# Altium footprint library Flow_Pump显示板.PcbLib: 70 footprints (part 2 of 5)
Each footprint in its own frame and in the unit in brackets; x right, y up, seen from the top. Pads: shape width x height; smd on the part's side, far side on the other; paste and mask are expansions set on the pad; w line width, h text height; cw(c..) or ccw(c..) is an arc to the next point about the centre after c.
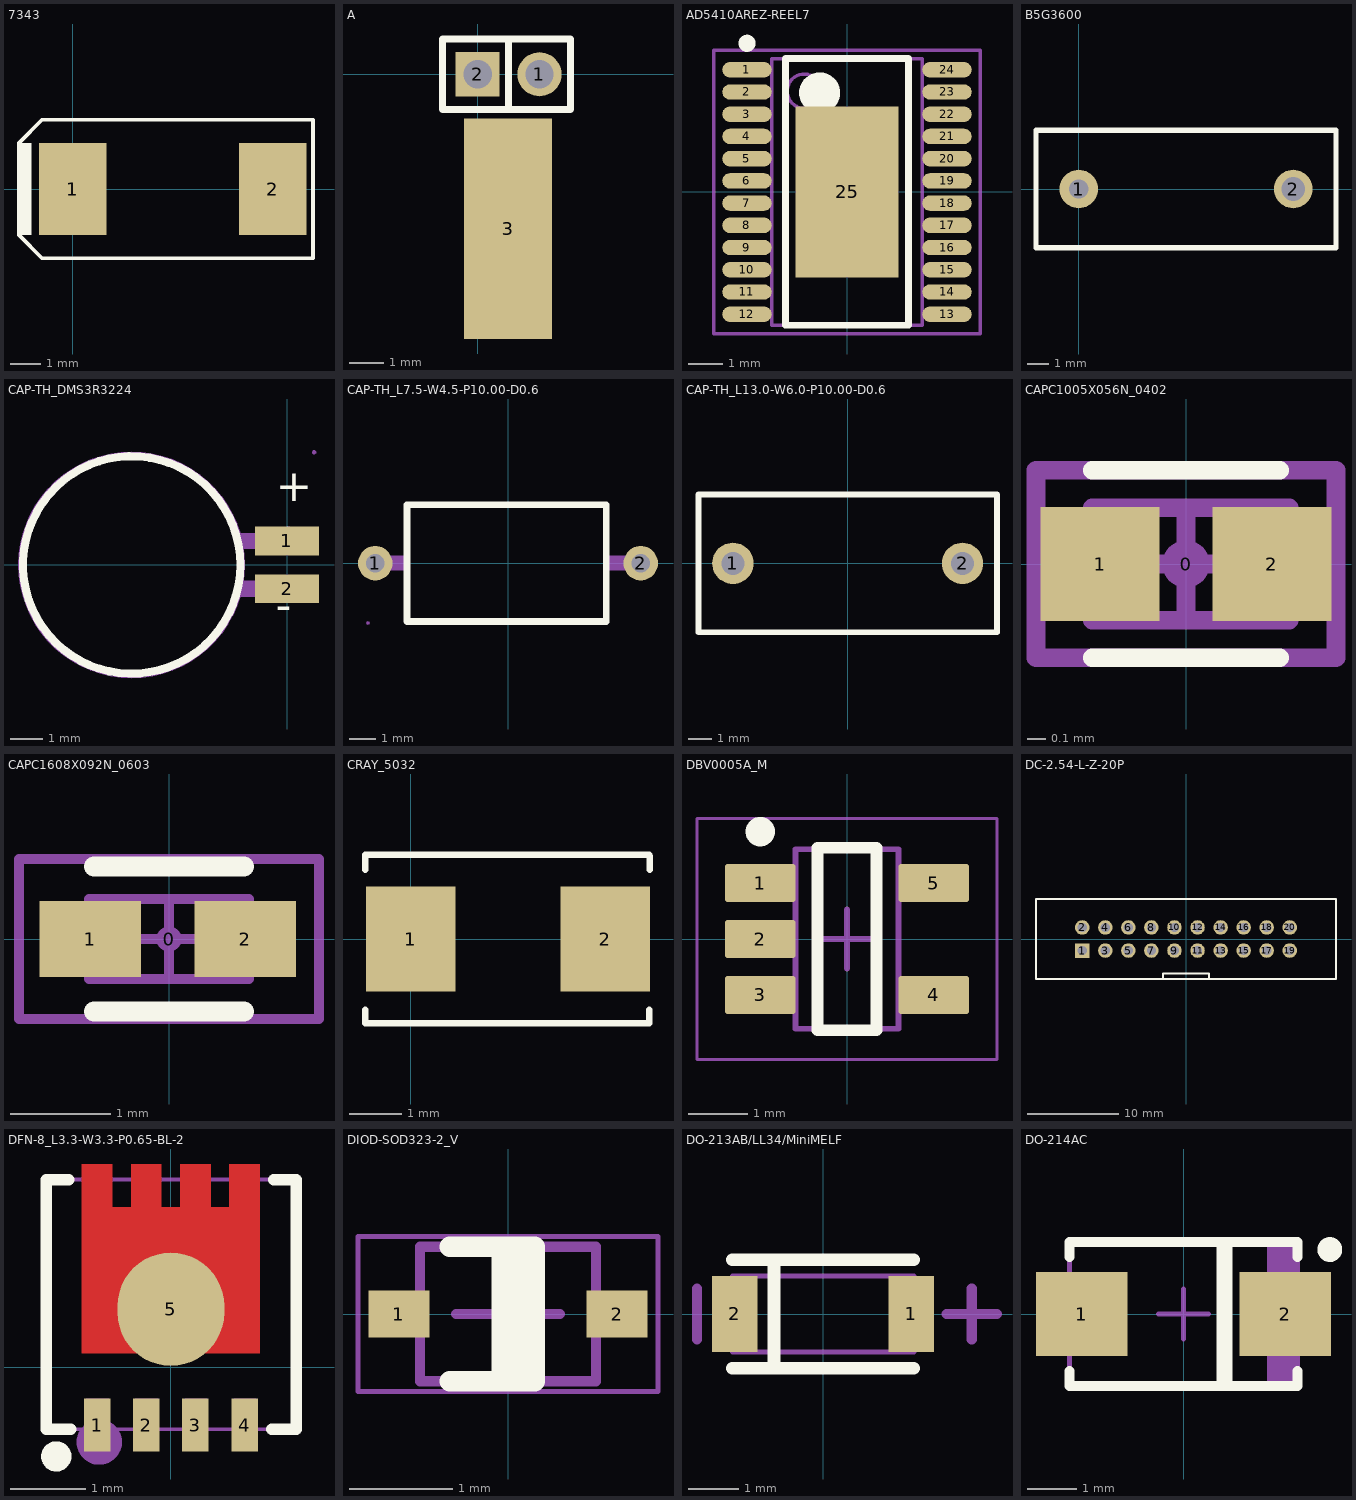
[diagram p1: the footprints below, top view; thin cyan lines are the x and y axes]

## 7343 [mm]
height 0.75
pads (2):
  rect 2.2x3 smd: 1(0,0) 2(6.5,0)
Top Overlay:
  rectangle: -1.75,-1.5 -1.35,1.5
  lines w0.127: -1.75,-1.5 -1.75,1.5 -1,2.25 7.8,2.25 7.8,-2.25 -1,-2.25 -1.75,-1.5

## A [mil]
height 29.53
pads (3):
  round 50 hole 32: 1(70,0)
  rect 50x50 hole 32: 2(0,0)
  rect 100x250 smd: 3(34.37,-175)
Top Overlay:
  lines w8: 35,-40 35,40 ; -40,-40 105,-40 105,40 -40,40 -40,-40

## AD5410AREZ-REEL7 [mm] "SOP, 24-Leads, Body 7.8x4.4mm (max), Pitch 0.65mm, IPC Medium Density"
height 2.65
pads (25):
  oval 1.45x0.45 smd: 1(-2.925,3.575) 2(-2.925,2.925) 3(-2.925,2.275) 4(-2.925,1.625) 5(-2.925,0.975) 6(-2.925,0.325) 7(-2.925,-0.325) 8(-2.925,-0.975) 9(-2.925,-1.625) 10(-2.925,-2.275) 11(-2.925,-2.925) 12(-2.925,-3.575) 13(2.925,-3.575) 14(2.925,-2.925) 15(2.925,-2.275) 16(2.925,-1.625) 17(2.925,-0.975) 18(2.925,-0.325) 19(2.925,0.325) 20(2.925,0.975) 21(2.925,1.625) 22(2.925,2.275) 23(2.925,2.925) 24(2.925,3.575)
  rect 3x5 smd: 25(0,0)
Top Overlay:
  circle w0.25: c-2.925,4.35 r0.125
  circle w0.6: c-0.8,2.9 r0.3
  lines w0.2: -1.8,-3.9 -1.8,3.9 1.8,3.9 1.8,-3.9 -1.8,-3.9
Mechanical 13:
  circle w0.1: c-1.25,2.95 r0.5
  lines w0.1: -2.2,-3.9 -2.2,3.9 2.2,3.9 2.2,-3.9 -2.2,-3.9
Mechanical 15:
  lines w0.1: -0.5,0 0.5,0 ; 0,-0.5 0,0.5 ; -3.9,-4.15 -3.9,4.15 3.9,4.15 3.9,-4.15 -3.9,-4.15
3D body: height 2.65, standoff 0.1, extent -2.2,-3.9 2.2,3.9

## B5G3600 [mm]
height 0.75
pads (2):
  round 1.8 hole 0.9: 1(0,0)
  round 1.8 hole 1.1: 2(10,0)
Top Overlay:
  lines w0.254: 11.938,-2.75 -2,-2.75 -2,2.75 12,2.75 12,-2.75

## CAP-TH_DMS3R3224 [mm]
pads (2):
  rect 2x0.9 smd: 1(-0.001,0.749) 2(0.001,-0.749)
Top Overlay:
  circle w0.254: c-4.86,0 r3.401
  text "-" at -0.359,-1.75 h1
  text "+" at -0.359,1.999 h1
Mechanical 6:
  region: 0.441,-0.649 -0.359,-0.649 -0.359,-0.749 0.441,-0.749
  region: -0.011,1.2 -0.011,0.4 0.089,0.4 0.089,1.2
  region: 0.439,0.85 -0.361,0.85 -0.361,0.75 0.439,0.75
  region: -4.861,-3.5 -4.632,-3.5 -4.177,-3.44 -3.734,-3.321 -3.31,-3.146 -2.913,-2.916 -2.549,-2.637 -2.224,-2.313 -1.945,-1.949 -1.716,-1.551 -1.54,-1.127 -1.421,-0.684 -1.361,-0.229 -1.361,0 -1.461,0 -1.469,-0.222 -1.527,-0.663 -1.642,-1.093 -1.812,-1.504 -2.034,-1.889 -2.305,-2.242 -2.62,-2.556 -2.972,-2.827 -3.358,-3.049 -3.768,-3.22 -4.198,-3.335 -4.639,-3.393 -4.861,-3.4
  region: -8.361,0 -8.361,-0.229 -8.301,-0.684 -8.183,-1.127 -8.007,-1.551 -7.778,-1.949 -7.498,-2.313 -7.174,-2.637 -6.81,-2.916 -6.413,-3.146 -5.989,-3.321 -5.546,-3.44 -5.091,-3.5 -4.861,-3.5 -4.861,-3.4 -5.084,-3.393 -5.525,-3.335 -5.954,-3.22 -6.365,-3.049 -6.75,-2.827 -7.103,-2.556 -7.418,-2.242 -7.688,-1.889 -7.911,-1.504 -8.081,-1.093 -8.196,-0.663 -8.254,-0.222 -8.261,0
  region: -4.861,3.5 -5.091,3.5 -5.546,3.44 -5.989,3.321 -6.413,3.146 -6.81,2.916 -7.174,2.637 -7.498,2.313 -7.778,1.949 -8.007,1.551 -8.183,1.127 -8.301,0.684 -8.361,0.229 -8.361,0 -8.261,0 -8.254,0.222 -8.196,0.663 -8.081,1.093 -7.911,1.504 -7.688,1.889 -7.418,2.242 -7.103,2.556 -6.75,2.827 -6.365,3.049 -5.954,3.22 -5.525,3.335 -5.084,3.393 -4.861,3.4
  region: -1.361,0 -1.361,0.229 -1.421,0.684 -1.54,1.127 -1.716,1.551 -1.945,1.949 -2.224,2.313 -2.549,2.637 -2.913,2.916 -3.31,3.146 -3.734,3.321 -4.177,3.44 -4.632,3.5 -4.861,3.5 -4.861,3.4 -4.639,3.393 -4.198,3.335 -3.768,3.22 -3.358,3.049 -2.972,2.827 -2.62,2.556 -2.305,2.242 -2.034,1.889 -1.812,1.504 -1.642,1.093 -1.527,0.663 -1.469,0.222 -1.461,0
Mechanical 15:
  region: -1.513,0.499 -1.503,0.749 -1.503,0.999 -0.793,0.999 -0.793,0.499
  region: -1.51,-1 -1.5,-0.75 -1.5,-0.5 -0.79,-0.499 -0.79,-0.999
  region: -0.849,-0.499 0.851,-0.499 0.851,-0.999 -0.849,-0.999
  region: -0.851,0.999 0.849,0.999 0.849,0.499 -0.851,0.499
  region: 0.909,3.525 0.908,3.549 0.873,3.583 0.825,3.583 0.79,3.549 0.789,3.525 0.79,3.501 0.825,3.467 0.873,3.467 0.908,3.501 0.909,3.525
  lines w0.051: -4.863,-3.525 cw(c-4.861,0) -4.861,3.525 cw(c-4.861,0) -4.86,-3.525 -4.863,-3.525

## CAP-TH_L7.5-W4.5-P10.00-D0.6 [mm]
height 0.75
pads (2):
  round 1.3 / inner round 1.524 / far side round 1.524 hole 0.7: 1(-5,0) 2(5,0)
Top Overlay:
  lines w0.254: -3.8,-2.2 -3.8,2.2 3.7,2.2 3.7,-2.2 -3.8,-2.2
Mechanical 15:
  region: 5,-0.275 5,0.275 3.7,0.275 3.7,-0.275
  region: -5,0.275 -5,-0.275 -3.7,-0.275 -3.7,0.275
  region: 5.279,0 5.259,0.103 5.198,0.194 5.107,0.254 5,0.276 4.893,0.254 4.802,0.194 4.741,0.103 4.721,0 4.741,-0.103 4.802,-0.194 4.893,-0.254 5,-0.276 5.107,-0.254 5.198,-0.194 5.259,-0.103
  region: -4.721,0 -4.741,0.103 -4.802,0.194 -4.893,0.254 -5,0.276 -5.107,0.254 -5.198,0.194 -5.259,0.103 -5.279,0 -5.259,-0.103 -5.198,-0.194 -5.107,-0.254 -5,-0.276 -4.893,-0.254 -4.802,-0.194 -4.741,-0.103
  region: -5.211,-2.25 -5.229,-2.205 -5.275,-2.186 -5.321,-2.205 -5.34,-2.25 -5.321,-2.295 -5.275,-2.314 -5.229,-2.295
  lines w0.051: -3.75,-2.25 3.75,-2.25 3.75,2.25 -3.75,2.25 -3.75,-2.25

## CAP-TH_L13.0-W6.0-P10.00-D0.6 [mm]
height 0.75
pads (2):
  round 1.8 hole 1: 1(-5,0) 2(5,0)
Top Overlay:
  lines w0.254: -6.5,-3 -6.5,3 6.5,3 6.5,-3 -6.5,-3
Mechanical 15:
  region: -4.7,0 -4.701,0.059 -4.748,0.167 -4.832,0.25 -4.941,0.295 -5.059,0.295 -5.168,0.25 -5.252,0.167 -5.299,0.059 -5.3,0 -5.299,-0.059 -5.252,-0.167 -5.168,-0.25 -5.059,-0.295 -4.941,-0.295 -4.832,-0.25 -4.748,-0.167 -4.701,-0.059 -4.7,0
  region: 5.3,0 5.299,0.059 5.252,0.167 5.168,0.25 5.059,0.295 4.941,0.295 4.832,0.25 4.748,0.167 4.701,0.059 4.7,0 4.701,-0.059 4.748,-0.167 4.832,-0.25 4.941,-0.295 5.059,-0.295 5.168,-0.25 5.252,-0.167 5.299,-0.059 5.3,0
  region: -6.44,-3 -6.44,-2.975 -6.475,-2.94 -6.525,-2.94 -6.56,-2.975 -6.56,-3 -6.56,-3.025 -6.525,-3.06 -6.475,-3.06 -6.44,-3.025 -6.44,-3
  lines w0.051: -6.5,-3 6.5,-3 6.5,3 -6.5,3 -6.5,-3

## CAPC1005X056N_0402 [mil] "Chip Capacitor, 0402"
height 22.05
pads (3):
  round 10 on Mech3: 0(0,0)
  rect 25x24 smd mask+1.97: 1(-18.03,0) 2(18.03,0)
Top Overlay:
  lines w3.94: -19.68,-19.68 19.68,-19.68 ; -19.68,19.68 19.68,19.68
Mechanical 10:
  lines w3.94: -19.68,-11.81 -19.68,11.81 21.65,11.81 21.65,-11.81 -19.68,-11.81
  text ".Designator" at -15.75,-4.92 h9.84
Mechanical 12:
  lines w3.94: -19.68,-11.81 -19.68,11.81 21.65,11.81 21.65,-11.81 -19.68,-11.81
Mechanical 14:
  lines w3.94: -11.81,0 11.81,0 ; 0,-11.81 0,11.81 ; -31.5,-19.68 -31.5,19.68 31.5,19.68 31.5,-19.68 -31.5,-19.68
3D body "CAPC1005X56N EIA 0402.step": height 22.05, standoff 0, extent -19.68,-9.84 19.68,9.84

## CAPC1608X092N_0603 [mil] "Chip Capacitor, 0603"
height 36.22
pads (3):
  round 10 on Mech3: 0(0,0)
  rect 40x30 smd: 1(-30.98,0) 2(30,0)
Top Overlay:
  lines w7.87: -29.53,-28.54 29.53,-28.54 ; -29.53,28.54 29.53,28.54
Mechanical 10:
  lines w3.94: -31.5,-15.75 31.5,-15.75 31.5,15.75 -31.5,15.75 -31.5,-15.75
  text ".Designator" at -26.57,-7.87 h15.75
Mechanical 12:
  lines w3.94: -31.5,-15.75 31.5,-15.75 31.5,15.75 -31.5,15.75 -31.5,-15.75
Mechanical 14:
  lines w3.94: -15.75,0 15.75,0 ; 0,-15.75 0,15.75 ; -59.06,-31.5 59.06,-31.5 59.06,31.5 -59.06,31.5 -59.06,-31.5
3D body "CAPC1608X92N EIA 0603.step": height 36.22, standoff 0, extent -31.5,-15.75 31.5,15.75

## CRAY_5032 [mm]
height 0.75
pads (2):
  rect 1.7x2 smd: 1(0,0) 2(3.7,0)
Top Overlay:
  lines w0.125: -0.864,-1.346 -0.864,-1.6 4.536,-1.6 4.536,-1.346 ; -0.864,1.321 -0.864,1.6 4.536,1.6 ; 4.547,1.321 4.547,1.575

## DBV0005A_M [mm] "SOT23, 5-Leads, Body 3.05x1.75mm, Pitch 0.95mm, IPC Low Density"
height 1.45
pads (5):
  rrect15% 1.2x0.65 smd: 1(-1.475,0.95) 2(-1.475,0) 3(-1.475,-0.95) 4(1.475,-0.95) 5(1.475,0.95)
Top Overlay:
  circle w0.25: c-1.475,1.825 r0.125
  lines w0.2: -0.5,-1.55 0.5,-1.55 0.5,1.55 -0.5,1.55 -0.5,-1.55
Mechanical 13:
  lines w0.1: -0.875,-1.525 -0.875,1.525 0.875,1.525 0.875,-1.525 -0.875,-1.525
Mechanical 15:
  lines w0.05: -2.55,-2.05 -2.55,2.05 2.55,2.05 2.55,-2.05 -2.55,-2.05
  lines w0.1: -0.5,0 0.5,0 ; 0,-0.5 0,0.5
3D body "DBV0005AaksMF05A.stp": height 1.08, standoff -0.01, extent -1.422,-1.461 1.422,1.46

## DC-2.54-L-Z-20P [mm] "立式直插简牛插座，间距2.54"
pads (20):
  rect 1.6x1.6 hole 1.02: 1(-11.43,-1.27)
  round 1.6 hole 1.02: 2(-11.43,1.27) 3(-8.89,-1.27) 4(-8.89,1.27) 5(-6.35,-1.27) 6(-6.35,1.27) 7(-3.81,-1.27) 8(-3.81,1.27) 9(-1.27,-1.27) 10(-1.27,1.27) 11(1.27,-1.27) 12(1.27,1.27) 13(3.81,-1.27) 14(3.81,1.27) 15(6.35,-1.27) 16(6.35,1.27) 17(8.89,-1.27) 18(8.89,1.27) 19(11.43,-1.27) 20(11.43,1.27)
Top Overlay:
  lines w0.254: -2.54,-4.4 -2.54,-3.81 2.54,-3.81 2.54,-4.4 ; -16.525,-4.4 16.525,-4.4 16.525,4.4 -16.525,4.4 -16.525,-4.4
3D body "2.54牛角插座2×10P.STEP": height 8.8, standoff -3.5, extent -16.525,-4.4 16.525,4.7

## DFN-8_L3.3-W3.3-P0.65-BL-2 [mm]
height 0.75
pads (5):
  rect 0.35x0.7 smd paste-100 mask+0.051: 1(-0.975,-0.765) 2(-0.325,-0.765) 3(0.325,-0.765) 4(0.975,-0.765)
  oval 1.411x1.499 smd: 5(0,0.765)
Top Layer:
  region: -1.176,0.187 -1.176,2.115 -1.176,2.685 -0.775,2.685 -0.775,2.115 -0.526,2.115 -0.526,2.685 -0.125,2.685 -0.125,2.115 0.125,2.115 0.125,2.685 0.525,2.685 0.525,2.115 0.774,2.115 0.774,2.685 0.774,2.115 0.774,2.685 1.176,2.685 1.176,2.115 1.176,0.187
Top Overlay:
  circle w0.2: c-1.515,-1.18 r0.1
  lines w0.152: -1.351,2.48 -1.645,2.48 -1.645,-0.82 -1.325,-0.82 ; 1.335,-0.82 1.655,-0.82 1.655,2.48 1.361,2.48
Top Paste:
  region: 0.8,-0.415 1.15,-0.415 1.15,-1.115 0.8,-1.115
  region: 0.15,-0.415 0.5,-0.415 0.5,-1.115 0.15,-1.115
  region: -0.5,-0.415 -0.15,-0.415 -0.15,-1.115 -0.5,-1.115
  region: -1.15,-0.415 -0.8,-0.415 -0.8,-1.115 -1.15,-1.115
  region: -1.176,0.187 -1.176,2.115 1.176,2.115 1.176,0.187
  region: 1.176,2.115 0.774,2.115 0.774,2.685 1.176,2.685
  region: -1.176,2.115 0.125,2.115 0.125,2.685 0.525,2.685 0.525,2.115
  region: -1.176,2.115 -0.526,2.115 -0.526,2.685 -0.125,2.685 -0.125,2.115
  region: -1.176,2.115 -1.176,2.685 -0.775,2.685 -0.775,2.115
Mechanical 6:
  circle w0.3: c-0.945,-0.99 r0.15
Mechanical 15:
  region: -1.585,-0.82 -1.585,-0.795 -1.62,-0.76 -1.67,-0.76 -1.705,-0.795 -1.705,-0.82 -1.705,-0.845 -1.67,-0.88 -1.62,-0.88 -1.585,-0.845 -1.585,-0.82
  region: -1.12,0.23 -1.12,2.08 -1.12,2.48 -0.82,2.48 -0.82,2.08 -0.47,2.08 -0.47,2.48 -0.17,2.48 -0.17,2.08 0.18,2.08 0.18,2.48 0.48,2.48 0.48,2.08 0.83,2.08 0.83,2.48 1.13,2.48 1.13,2.08 1.13,0.23
  region: 0.83,-0.42 1.13,-0.42 1.13,-0.82 0.83,-0.82
  region: 0.18,-0.42 0.48,-0.42 0.48,-0.82 0.18,-0.82
  region: -0.47,-0.42 -0.17,-0.42 -0.17,-0.82 -0.47,-0.82
  region: -1.12,-0.42 -0.82,-0.42 -0.82,-0.82 -1.12,-0.82
  lines w0.051: -1.645,-0.82 -1.645,2.48 1.655,2.48 1.655,-0.82 -1.645,-0.82

## DIOD-SOD323-2_V [mm] "SOD-323, 2-Leads, Body 1.7x1.3mm, Lead Span 2.5mm"
height 1.2
pads (2):
  rect 0.59x0.45 smd: 1(-1.055,0) 2(1.055,0)
Top Overlay:
  rectangle: -0.16,-0.65 0.26,0.65
  lines w0.2: -0.56,-0.65 0.26,-0.65 0.26,0.65 -0.56,0.65
Mechanical 13:
  lines w0.1: -0.85,-0.65 -0.85,0.65 0.85,0.65 0.85,-0.65 -0.85,-0.65
Mechanical 15:
  lines w0.05: -1.45,-0.75 -1.45,0.75 1.45,0.75 1.45,-0.75 -1.45,-0.75
  lines w0.1: -0.5,0 0.5,0 ; 0,-0.5 0,0.5
3D body "SOD323.stp": height 1.13, standoff 0.02, extent -1.212,-0.65 1.306,0.65

## DO-213AB/LL34/MiniMELF [mm]
height 0.75
pads (2):
  rect 0.9x1.5 smd: 1(1.75,0) 2(-1.75,0)
Top Overlay:
  lines w0.254: -1.8,-1.075 1.8,-1.075 ; -1.8,1.075 1.8,1.075 ; -0.975,-1.075 -0.975,1.075
Mechanical 13:
  lines w0.1: -1.8,-0.75 1.8,-0.75 1.8,0.75 -1.8,0.75 -1.8,-0.75
Mechanical 15:
  lines w0.203: -2.5,-0.5 -2.5,0.5 ; 2.45,0 3.45,0 ; 2.95,-0.5 2.95,0.5

## DO-214AC [mm] "Molded Diode, 2-Leads, Body 4.3x2.7mm, IPC Medium Density"
height 2.438
pads (2):
  rect 1.85x1.7 smd: 1(-2.05,0) 2(2.05,0)
Top Overlay:
  circle w0.25: c2.95,1.3 r0.125
  lines w0.2: -2.3,-1.15 -2.3,-1.45 2.3,-1.45 2.3,-1.15 ; -2.3,1.15 -2.3,1.45 2.3,1.45 2.3,1.15 ; 0.762,-1.397 0.762,1.397 ; 0.889,-1.397 0.889,1.397
Mechanical 13:
  rectangle: 1.681,-1.45 2.3,1.45
  lines w0.1: -2.3,-1.45 2.3,-1.45 2.3,1.45 -2.3,1.45 -2.3,-1.45
Mechanical 15:
  lines w0.1: -0.5,0 0.5,0 ; 0,-0.5 0,0.5
3D body: height 2.44, standoff 0, extent -2.3,-1.45 2.3,1.45